# Altium footprint library GM-502B.PcbLib: 1 footprints
Each footprint in its own frame and in the unit in brackets; x right, y up, seen from the top. Pads: shape width x height; smd on the part's side, far side on the other; paste and mask are expansions set on the pad; w line width, h text height; cw(c..) or ccw(c..) is an arc to the next point about the centre after c.
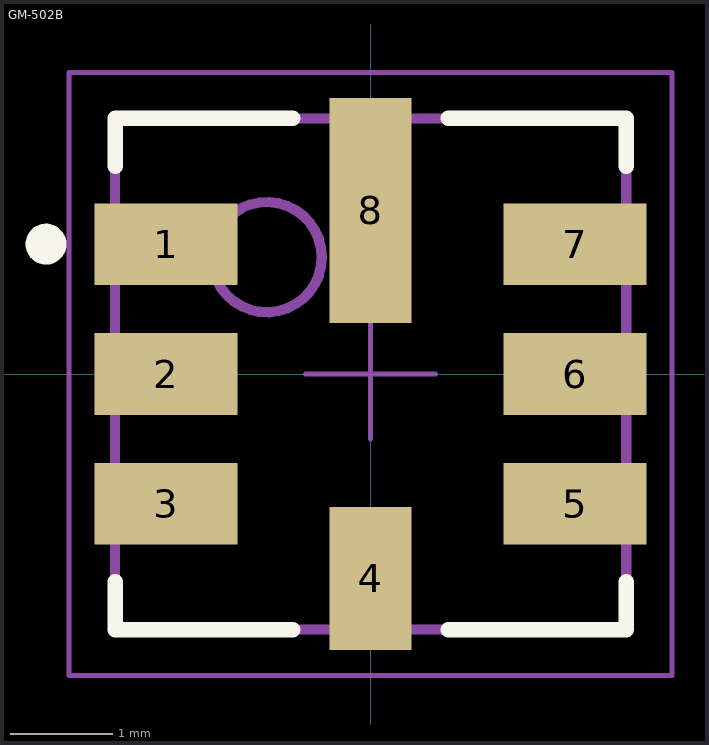
[diagram p0: the footprint, top view; thin cyan lines are the x and y axes]

## GM-502B [mm]
height 1.5
pads (8):
  rect 1.4x0.8 smd: 1(-2,1.27) 2(-2,0) 3(-2,-1.27) 5(2,-1.27) 6(2,0) 7(2,1.27)
  rect 0.8x1.4 smd: 4(0,-2)
  rect 0.8x2.2 smd: 8(0,1.6)
Top Overlay:
  circle w0.2: c-3.175,1.27 r0.1
  lines w0.152: -2.5,-2.032 -2.5,-2.5 -0.762,-2.5 ; -2.5,2.032 -2.5,2.5 -0.762,2.5 ; 0.762,-2.5 2.5,-2.5 2.5,-2.032 ; 0.762,2.5 2.5,2.5 2.5,2.032
Mechanical 13:
  circle w0.1: c-1.016,1.143 r0.539
  lines w0.1: -2.5,-2.5 -2.5,2.5 2.5,2.5 2.5,-2.5 -2.5,-2.5
Mechanical 15:
  lines w0.05: -0.635,0 0.635,0 ; 0,-0.635 0,0.635 ; -2.95,-2.95 2.95,-2.95 2.95,2.95 -2.95,2.95 -2.95,-2.95
3D body: height 1.51, standoff -0.05, extent -2.5,-2.5 2.5,2.5